# Altium footprint library Brduino-Nano.PcbLib: 16 footprints
Each footprint in its own frame and in the unit in brackets; x right, y up, seen from the top. Pads: shape width x height; smd on the part's side, far side on the other; paste and mask are expansions set on the pad; w line width, h text height; cw(c..) or ccw(c..) is an arc to the next point about the centre after c.
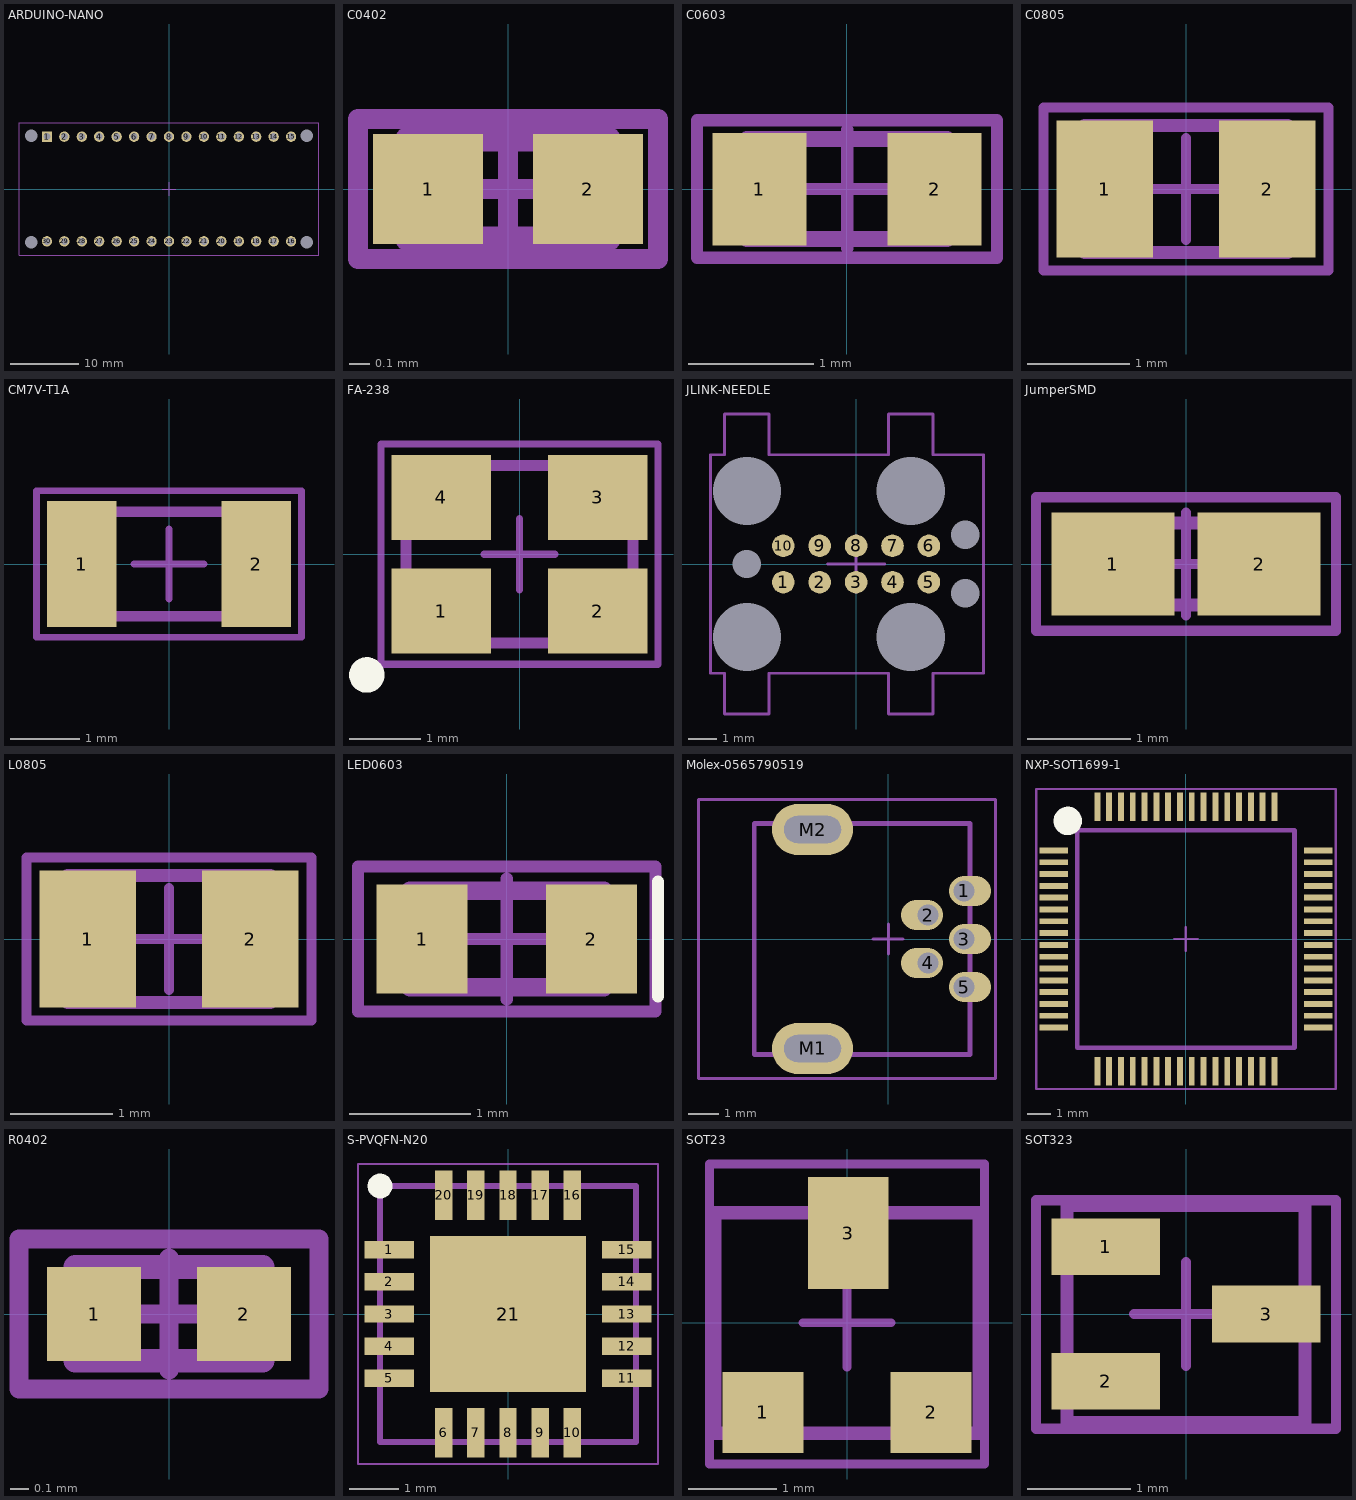
[diagram p0: the footprints below, top view; thin cyan lines are the x and y axes]

## ARDUINO-NANO [mm]
pads (34):
  rect 1.5x1.5 hole 1: 1(-17.78,7.62)
  round 1.5 hole 1: 2(-15.24,7.62) 3(-12.7,7.62) 4(-10.16,7.62) 5(-7.62,7.62) 6(-5.08,7.62) 7(-2.54,7.62) 8(0,7.62) 9(2.54,7.62) 10(5.08,7.62) 11(7.62,7.62) 12(10.16,7.62) 13(12.7,7.62) 14(15.24,7.62) 15(17.78,7.62) 16(17.78,-7.62) 17(15.24,-7.62) 18(12.7,-7.62) 19(10.16,-7.62) 20(7.62,-7.62) 21(5.08,-7.62) 22(2.54,-7.62) 23(0,-7.62) 24(-2.54,-7.62) 25(-5.08,-7.62) 26(-7.62,-7.62) 27(-10.16,-7.62) 28(-12.7,-7.62) 29(-15.24,-7.62) 30(-17.78,-7.62)
  round 0 hole 1.778 unplated: M1(-20.066,-7.747) M2(-20.066,7.747) M3(20.066,7.747) M4(20.066,-7.747)
Top Component Outline:
  lines w0.127: -21.844,-9.652 -21.844,9.652 21.844,9.652 21.844,-9.652 -21.844,-9.652
Top Courtyard:
  lines w0.127: -21.844,-9.652 -21.844,9.652 21.844,9.652 21.844,-9.652 -21.844,-9.652
Mechanical 15:
  lines w0.1: -1,0 1,0 ; 0,-1 0,1
3D body "User Library-Arduino Nano 3.0_HDR1x15.STEP": height 6.35, standoff -2.54, extent -19.05,6.35 19.05,8.89
3D body "User Library-Arduino Nano 3.0_HDR1x15.STEP": height 6.35, standoff -2.54, extent -19.05,-8.89 19.05,-6.35

## C0402 [mm] "Chip Capacitor; Body 1.0x0.5mm (LxW typ), IPC High Density"
height 0.6
pads (2):
  rect 0.55x0.55 smd: 1(-0.4,0) 2(0.4,0)
Top Courtyard:
  lines w0.127: -0.5,-0.25 0.5,-0.25 0.5,0.25 -0.5,0.25 -0.5,-0.25
Mechanical 15:
  lines w0.1: -0.3,0 0.3,0 ; 0,-0.3 0,0.3 ; -0.75,-0.35 0.75,-0.35 0.75,0.35 -0.75,0.35 -0.75,-0.35
3D body "C0402.STEP": height 0.5, standoff 0, extent -0.5,-0.25 0.5,0.25

## C0603 [mm] "Chip Capacitor; Body 1.6x0.8mm (LxW typ), IPC High Density"
height 0.85
pads (2):
  rect 0.75x0.9 smd: 1(-0.7,0) 2(0.7,0)
Top Courtyard:
  lines w0.127: -0.8,-0.4 -0.8,0.4 0.8,0.4 0.8,-0.4 -0.8,-0.4
Mechanical 15:
  lines w0.1: -0.475,0 0.475,0 ; 0,-0.475 0,0.475 ; -1.2,-0.55 -1.2,0.55 1.2,0.55 1.2,-0.55 -1.2,-0.55
3D body "C0603.STEP": height 0.8, standoff 0, extent -0.8,-0.4 0.8,0.4

## C0805 [mm] "Chip Capacitor; Body 2.0x1.3mm (LxW typ), IPC High Density"
height 1.1
pads (2):
  rect 0.95x1.35 smd: 1(-0.8,0) 2(0.8,0)
Top Courtyard:
  lines w0.127: -1,-0.625 -1,0.625 1,0.625 1,-0.625 -1,-0.625
Mechanical 15:
  lines w0.1: -0.5,0 0.5,0 ; 0,-0.5 0,0.5 ; -1.4,-0.8 -1.4,0.8 1.4,0.8 1.4,-0.8 -1.4,-0.8
3D body "C0805.STEP": height 0.6, standoff 0, extent -1,-0.625 1,0.625

## CM7V-T1A [mm]
pads (2):
  rect 1x1.8 smd: 1(-1.25,0) 2(1.25,0)
Top Courtyard:
  lines w0.152: -1.6,-0.75 1.6,-0.75 1.6,0.75 -1.6,0.75 -1.6,-0.75
Mechanical 15:
  lines w0.1: -0.5,0 0.5,0 ; 0,-0.5 0,0.5 ; -1.9,-1.05 1.9,-1.05 1.9,1.05 -1.9,1.05 -1.9,-1.05
3D body "CM7V-T1A.STEP": height 0.75, standoff 0, extent -1.6,-0.75 1.6,0.75

## FA-238 [mm]
pads (4):
  rect 1.4x1.2 smd: 1(-1.1,-0.8) 2(1.1,-0.8) 3(1.1,0.8) 4(-1.1,0.8)
Top Overlay:
  circle w0.25: c-2.15,-1.7 r0.125
Top Courtyard:
  lines w0.152: -1.6,-1.25 -1.6,1.25 1.6,1.25 1.6,-1.25 -1.6,-1.25
Mechanical 15:
  lines w0.1: -0.5,0 0.5,0 ; 0,-0.5 0,0.5 ; -1.95,-1.55 1.95,-1.55 1.95,1.55 -1.95,1.55 -1.95,-1.55
3D body "FA-238.STEP": height 0.8, standoff 0, extent -1.6,-1.25 1.6,1.25

## JLINK-NEEDLE [mil]
pads (17):
  round 31 smd paste-31: 1(-100,-25) 2(-50,-25) 3(0,-25) 4(50,-25) 5(100,-25) 6(100,25) 7(50,25) 8(0,25) 9(-50,25) 10(-100,25)
  round 0 hole 93.5 unplated: M1(-150,100) M2(-150,-100) M3(75,100) M4(75,-100)
  round 0 hole 39 unplated: P1(-150,0) P2(150,40) P3(150,-40)
Mechanical 15:
  lines w3.94: -39.37,0 39.37,0 ; 0,-39.37 0,39.37 ; -200,-150 -200,150 -180.5,150 -180.5,206 -119.5,206 -119.5,150 44.5,150 44.5,206 105.5,206 105.5,150 175,150 175,-150 105.5,-150 105.5,-206 44.5,-206 44.5,-150 -119.5,-150 -119.5,-206 -180.5,-206 -180.5,-150 -200,-150

## JumperSMD [mm] "Chip Resistor, Body 1.6x0.8mm (LxW typ), IPC High Density"
pads (2):
  rect 1.2x1 smd: 1(-0.711,0) 2(0.711,0)
Top Courtyard:
  lines w0.127: -0.8,-0.4 0.8,-0.4 0.8,0.4 -0.8,0.4 -0.8,-0.4
Mechanical 15:
  lines w0.1: -0.5,0 0.5,0 ; 0,-0.5 0,0.5 ; -1.46,-0.65 1.46,-0.65 1.46,0.65 -1.46,0.65 -1.46,-0.65
3D body "R0603.STEP": height 0.45, standoff 0, extent -0.8,-0.4 0.8,0.4

## L0805 [mm]
height 1.1
pads (2):
  rect 0.95x1.35 smd: 1(-0.8,0) 2(0.8,0)
Top Courtyard:
  lines w0.127: -1,-0.625 1,-0.625 1,0.625 -1,0.625 -1,-0.625
Mechanical 15:
  lines w0.1: -0.5,0 0.5,0 ; 0,-0.5 0,0.5 ; -1.4,-0.8 1.4,-0.8 1.4,0.8 -1.4,0.8 -1.4,-0.8
3D body "L0805.STEP": height 0.6, standoff 0, extent -1,-0.625 1,0.625

## LED0603 [mm]
height 0.85
pads (2):
  rect 0.75x0.9 smd: 1(-0.7,0) 2(0.7,0)
Top Overlay:
  lines w0.1: 1.25,-0.475 1.25,0.475
Top Courtyard:
  lines w0.152: -0.8,-0.4 -0.8,0.4 0.8,0.4 0.8,-0.4 -0.8,-0.4
Mechanical 15:
  lines w0.1: -0.5,0 0.5,0 ; 0,-0.5 0,0.5 ; -1.23,-0.6 -1.23,0.6 1.23,0.6 1.23,-0.6 -1.23,-0.6
3D body "L0603-green.STEP": height 0.63, standoff 0, extent -0.8,-0.4 0.8,0.4

## Molex-0565790519 [mm]
pads (7):
  oval 1.4x1 hole 0.7 copper offset 0.2,0: 1(2.525,1.6) 3(2.525,0) 5(2.525,-1.6)
  oval 1.4x1 hole 0.7 copper offset -0.2,0: 2(1.325,0.8) 4(1.325,-0.8)
  oval 2.7x1.7 hole 0.9 slot 1.9 at 0 deg: M1(-2.525,-3.65) M2(-2.525,3.65)
Top Courtyard:
  lines w0.152: -4.47,-3.85 2.725,-3.85 2.725,3.85 -4.47,3.85 -4.47,-3.85
Mechanical 15:
  lines w0.1: -0.5,0 0.5,0 ; 0,-0.5 0,0.5 ; -6.33,-4.65 3.58,-4.65 3.58,4.65 -6.33,4.65 -6.33,-4.65
3D body "565790519.stp": height 3.95, standoff -1.8, extent -6.275,-3.85 2.725,3.85

## NXP-SOT1699-1 [mm] "TSQFP, 64-Leads, Body 10.00x10.00mm, Pitch 0.50mm, IPC High Density"
height 1.6
pads (64):
  rect 1.2x0.25 smd: 1(-5.6,3.75) 2(-5.6,3.25) 3(-5.6,2.75) 4(-5.6,2.25) 5(-5.6,1.75) 6(-5.6,1.25) 7(-5.6,0.75) 8(-5.6,0.25) 9(-5.6,-0.25) 10(-5.6,-0.75) 11(-5.6,-1.25) 12(-5.6,-1.75) 13(-5.6,-2.25) 14(-5.6,-2.75) 15(-5.6,-3.25) 16(-5.6,-3.75) 33(5.6,-3.75) 34(5.6,-3.25) 35(5.6,-2.75) 36(5.6,-2.25) 37(5.6,-1.75) 38(5.6,-1.25) 39(5.6,-0.75) 40(5.6,-0.25) 41(5.6,0.25) 42(5.6,0.75) 43(5.6,1.25) 44(5.6,1.75) 45(5.6,2.25) 46(5.6,2.75) 47(5.6,3.25) 48(5.6,3.75)
  rect 0.25x1.2 smd: 17(-3.75,-5.6) 18(-3.25,-5.6) 19(-2.75,-5.6) 20(-2.25,-5.6) 21(-1.75,-5.6) 22(-1.25,-5.6) 23(-0.75,-5.6) 24(-0.25,-5.6) 25(0.25,-5.6) 26(0.75,-5.6) 27(1.25,-5.6) 28(1.75,-5.6) 29(2.25,-5.6) 30(2.75,-5.6) 31(3.25,-5.6) 32(3.75,-5.6) 49(3.75,5.6) 50(3.25,5.6) 51(2.75,5.6) 52(2.25,5.6) 53(1.75,5.6) 54(1.25,5.6) 55(0.75,5.6) 56(0.25,5.6) 57(-0.25,5.6) 58(-0.75,5.6) 59(-1.25,5.6) 60(-1.75,5.6) 61(-2.25,5.6) 62(-2.75,5.6) 63(-3.25,5.6) 64(-3.75,5.6)
Top Overlay:
  circle w0.6: c-5,5 r0.3
Top Courtyard:
  lines w0.2: -4.6,-4.6 -4.6,4.6 4.6,4.6 4.6,-4.6 -4.6,-4.6
Mechanical 15:
  lines w0.1: -0.5,0 0.5,0 ; 0,-0.5 0,0.5 ; -6.34,-6.35 -6.34,6.35 6.35,6.35 6.35,-6.35 -6.34,-6.35
3D body "SOT1699-1.STEP": height 1.35, standoff 0, extent -6,-6 6,6

## R0402 [mm] "Chip Resistor, Body 1.1x0.5mm (LxW typ), IPC High Density"
height 0.4
pads (2):
  rect 0.5x0.5 smd: 1(-0.4,0) 2(0.4,0)
Top Courtyard:
  lines w0.127: -0.5,-0.25 0.5,-0.25 0.5,0.25 -0.5,0.25 -0.5,-0.25
Mechanical 15:
  lines w0.1: -0.3,0 0.3,0 ; 0,-0.3 0,0.3 ; -0.8,-0.4 0.8,-0.4 0.8,0.4 -0.8,0.4 -0.8,-0.4
3D body "R0402.STEP": height 0.35, standoff 0, extent -0.5,-0.25 0.5,0.25

## S-PVQFN-N20 [mm] "(RGW) QFN 5mmx5mm, RM 0.65mm"
height 1
pads (21):
  rect 1x0.35 smd: 1(-2.4,1.3) 2(-2.4,0.65) 3(-2.4,0) 4(-2.4,-0.65) 5(-2.4,-1.3) 11(2.4,-1.3) 12(2.4,-0.65) 13(2.4,0) 14(2.4,0.65) 15(2.4,1.3)
  rect 0.35x1 smd: 6(-1.3,-2.4) 7(-0.65,-2.4) 8(0,-2.4) 9(0.65,-2.4) 10(1.3,-2.4) 16(1.3,2.4) 17(0.65,2.4) 18(0,2.4) 19(-0.65,2.4) 20(-1.3,2.4)
  rect 3.15x3.15 smd: 21(0,0)
Top Overlay:
  circle w0.25: c-2.585,2.585 r0.125
Top Courtyard:
  lines w0.127: -2.585,-2.585 -2.585,2.585 2.585,2.585 2.585,-2.585 -2.585,-2.585
Mechanical 15:
  lines w0.05: -3.03,-3.03 -3.03,3.03 3.03,3.03 3.03,-3.03 -3.03,-3.03
  lines w0.1: -0.5,0 0.5,0 ; 0,-0.5 0,0.5
3D body "RGW (S-PVQFN-N20).STEP": height 1, standoff 0, extent -2.585,-2.585 2.585,2.585

## SOT23 [mil]
pads (3):
  rect 36x36 smd: 1(-37.5,-40) 2(37.5,-40)
  rect 36x50 smd: 3(0.5,40)
Top Courtyard:
  lines w6: -59.06,-49.21 -59.06,49.21 59.06,49.21 59.06,-49.21 -59.06,-49.21
Mechanical 15:
  lines w3.94: -19.69,0 19.68,0 ; 0,-19.68 0,19.69 ; -61.42,-62.99 -61.42,70.87 61.42,70.87 61.42,-62.99 -61.42,-62.99
3D body "SOT23-3.step": height 43.31, standoff 0, extent -59.05,-49.21 59.06,49.21

## SOT323 [mm]
height 1.1
pads (3):
  rect 1.05x0.55 smd: 1(-0.775,0.65) 2(-0.775,-0.65) 3(0.775,0)
Top Courtyard:
  lines w0.127: -1.15,-1.05 1.15,-1.05 1.15,1.05 -1.15,1.05 -1.15,-1.05
Mechanical 15:
  lines w0.1: -0.5,0 0.5,0 ; 0,-0.5 0,0.5 ; -1.45,-1.11 1.45,-1.11 1.45,1.1 -1.45,1.1 -1.45,-1.11
3D body "SOT323.step": height 1, standoff 0, extent -1.15,-1.05 1.15,1.05